# EAGLE library part TLC5958 (library Fugu_LSI)
8 48-Channel, 16-Bit ES-PWM LED Driver with Pre-Charge FET, LED Open Detection and Display Data Memory Support 32-Multiplexing
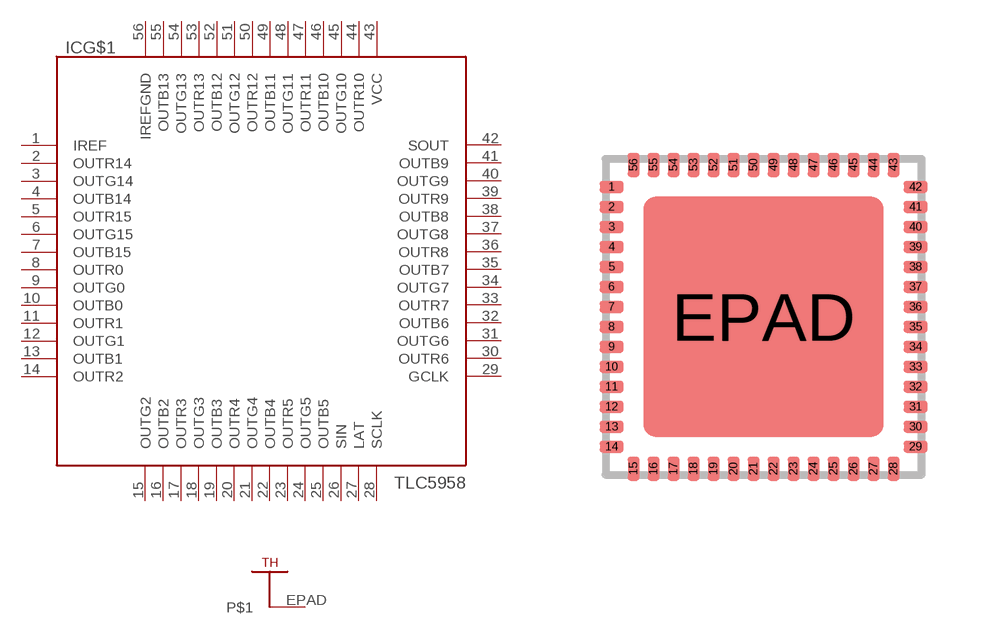
[diagram p16: symbol with the pads of QFN56; footprint QFN56]

Designator prefix IC; gates G$1=TLC5958 G$2=THERMAL_HEATSINK

## TLC5958  [QFN56]
1  G$1:IREF
2  G$1:OUTR14
3  G$1:OUTG14
4  G$1:OUTB14
5  G$1:OUTR15
6  G$1:OUTG15
7  G$1:OUTB15
8  G$1:OUTR0
9  G$1:OUTG0
10  G$1:OUTB0
11  G$1:OUTR1
12  G$1:OUTG1
13  G$1:OUTB1
14  G$1:OUTR2
15  G$1:OUTG2
16  G$1:OUTB2
17  G$1:OUTR3
18  G$1:OUTG3
19  G$1:OUTB3
20  G$1:OUTR4
21  G$1:OUTG4
22  G$1:OUTB4
23  G$1:OUTR5
24  G$1:OUTG5
25  G$1:OUTB5
26  G$1:SIN
27  G$1:LAT
28  G$1:SCLK
29  G$1:GCLK
30  G$1:OUTR6
31  G$1:OUTG6
32  G$1:OUTB6
33  G$1:OUTR7
34  G$1:OUTG7
35  G$1:OUTB7
36  G$1:OUTR8
37  G$1:OUTG8
38  G$1:OUTB8
39  G$1:OUTR9
40  G$1:OUTG9
41  G$1:OUTB9
42  G$1:SOUT
43  G$1:VCC
44  G$1:OUTR10
45  G$1:OUTG10
46  G$1:OUTB10
47  G$1:OUTR11
48  G$1:OUTG11
49  G$1:OUTB11
50  G$1:OUTR12
51  G$1:OUTG12
52  G$1:OUTB12
53  G$1:OUTR13
54  G$1:OUTG13
55  G$1:OUTB13
56  G$1:IREFGND
EPAD  G$2:P$1

## Footprint QFN56 (pad centres in mm)
56-Lead QFN 8 x 8 mm LF56A Source: Source: http://www.cypress.com .. cy7c68013a_5.pdf
smd 0.6 x 0.3: 1 -3.8,3.25; 2 -3.8,2.75; 3 -3.8,2.25; 4 -3.8,1.75; 5 -3.8,1.25; 6 -3.8,0.75; 7 -3.8,0.25; 8 -3.8,-0.25; 9 -3.8,-0.75; 10 -3.8,-1.25; 11 -3.8,-1.75; 12 -3.8,-2.25; 13 -3.8,-2.75; 14 -3.8,-3.25; 29 3.8,-3.25; 30 3.8,-2.75; 31 3.8,-2.25; 32 3.8,-1.75; 33 3.8,-1.25; 34 3.8,-0.75; 35 3.8,-0.25; 36 3.8,0.25; 37 3.8,0.75; 38 3.8,1.25; 39 3.8,1.75; 40 3.8,2.25; 41 3.8,2.75; 42 3.8,3.25
smd 0.3 x 0.6: 15 -3.25,-3.8; 16 -2.75,-3.8; 17 -2.25,-3.8; 18 -1.75,-3.8; 19 -1.25,-3.8; 20 -0.75,-3.8; 21 -0.25,-3.8; 22 0.25,-3.8; 23 0.75,-3.8; 24 1.25,-3.8; 25 1.75,-3.8; 26 2.25,-3.8; 27 2.75,-3.8; 28 3.25,-3.8; 43 3.25,3.8; 44 2.75,3.8; 45 2.25,3.8; 46 1.75,3.8; 47 1.25,3.8; 48 0.75,3.8; 49 0.25,3.8; 50 -0.25,3.8; 51 -0.75,3.8; 52 -1.25,3.8; 53 -1.75,3.8; 54 -2.25,3.8; 55 -2.75,3.8; 56 -3.25,3.8
smd 6 x 6: EPAD 0,0